# EAGLE library part PT2399 (library princeton-tech)
Echo Processor IC
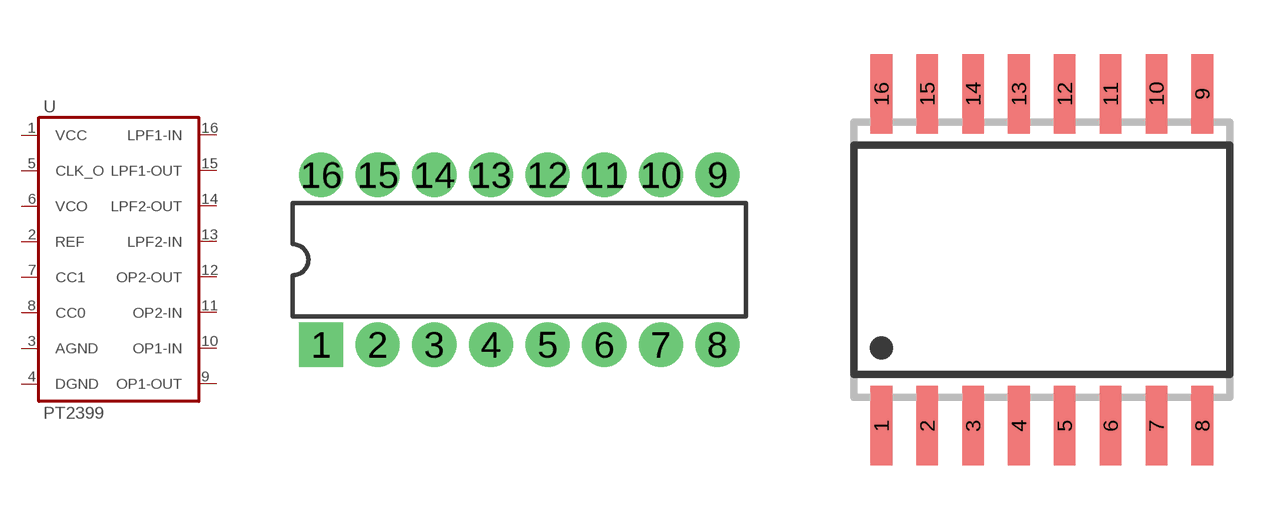
[diagram p0: symbol with the pads of DIL16; footprints DIL16, SO16W]

Designator prefix U

## PT2399  [DIL16]
1  VCC  pwr
2  REF  in
3  AGND  pwr
4  DGND  pwr
5  CLK_O  out
6  VCO  in
7  CC1  in
8  CC0  in
9  OP1-OUT  out
10  OP1-IN  in
11  OP2-IN  in
12  OP2-OUT  out
13  LPF2-IN  in
14  LPF2-OUT  out
15  LPF1-OUT  out
16  LPF1-IN  in

## PT2399S  [SO16W]
Pads as for DIL16

## Footprint DIL16 (pad centres in mm)
Dual In Line Package
drill 1 pad 1.981 square: 1 -8.89,-3.81
drill 1 pad 1.981 round: 2 -6.35,-3.81; 3 -3.81,-3.81; 4 -1.27,-3.81; 5 1.27,-3.81; 6 3.81,-3.81; 7 6.35,-3.81; 8 8.89,-3.81; 9 8.89,3.81; 10 6.35,3.81; 11 3.81,3.81; 12 1.27,3.81; 13 -1.27,3.81; 14 -3.81,3.81; 15 -6.35,3.81; 16 -8.89,3.81

## Footprint SO16W (pad centres in mm)
SMALL OUTLINE INTEGRATED CIRCUIT wide body 7.5 mm/JEDEC MS-013AA
smd 0.6 x 2.2: 1 -4.445,-4.6; 2 -3.175,-4.6; 3 -1.905,-4.6; 4 -0.635,-4.6; 5 0.635,-4.6; 6 1.905,-4.6; 7 3.175,-4.6; 8 4.445,-4.6; 9 4.445,4.6; 10 3.175,4.6; 11 1.905,4.6; 12 0.635,4.6; 13 -0.635,4.6; 14 -1.905,4.6; 15 -3.175,4.6; 16 -4.445,4.6